# Altium schematic symbol library TFP401PZP.SchLib: 1 symbol
Pins are listed as number, name and electrical type; pins without a type are passive.

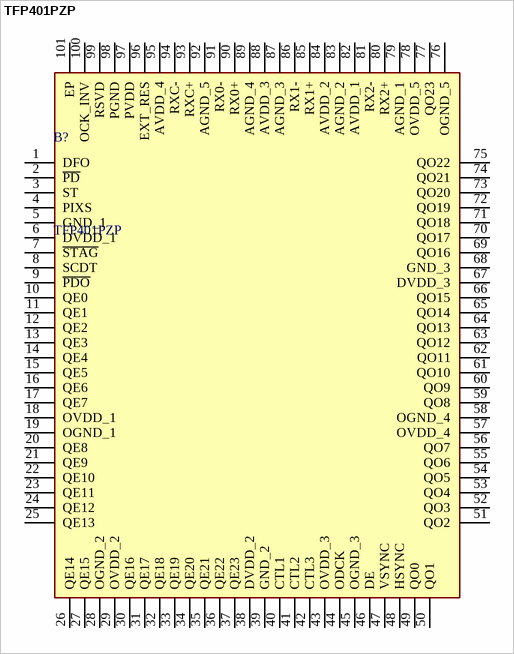
[diagram p0: symbol TFP401PZP]

## TFP401PZP
designator B?
165-MHz TMDS DVI receiver/deserializer & Panelbus integrated circuit; Manufacturer_Name: Texas Instruments; Geometry.Height: 1.2mm; Manufacturer_Part_Number: TFP401PZP; Mouser Part Number: 595-TFP401PZP; Mouser Price/Stock: https://www.mouser.co.uk/ProductDetail/Texas-Instruments/TFP401PZP?qs=bvCpHSZmQjmzyJ9p8ABYPA%3D%3D; Arrow Part Number: TFP401PZP; Arrow Price/Stock: https://www.arrow.com/en/products/tfp401pzp/texas-instruments?utm_currency=USD&region=nac; Datasheet Link: http://www.ti.com/lit/gpn/tfp401
footprint QFP50P1600X1600X120-101N
pins: 1 DFO, 2 ~{PD}, 3 ST, 4 PIXS, 5 GND_1, 6 DVDD_1, 7 ~{STAG}, 8 SCDT, 9 ~{PDO}, 10 QE0, 11 QE1, 12 QE2, 13 QE3, 14 QE4, 15 QE5, 16 QE6, 17 QE7, 18 OVDD_1, 19 OGND_1, 20 QE8, 21 QE9, 22 QE10, 23 QE11, 24 QE12, 25 QE13, 26 QE14, 27 QE15, 28 OGND_2, 29 OVDD_2, 30 QE16, 31 QE17, 32 QE18, 33 QE19, 34 QE20, 35 QE21, 36 QE22, 37 QE23, 38 DVDD_2, 39 GND_2, 40 CTL1, 41 CTL2, 42 CTL3, 43 OVDD_3, 44 ODCK, 45 OGND_3, 46 DE, 47 VSYNC, 48 HSYNC, 49 QO0, 50 QO1, 51 QO2, 52 QO3, 53 QO4, 54 QO5, 55 QO6, 56 QO7, 57 OVDD_4, 58 OGND_4, 59 QO8, 60 QO9, 61 QO10, 62 QO11, 63 QO12, 64 QO13, 65 QO14, 66 QO15, 67 DVDD_3, 68 GND_3, 69 QO16, 70 QO17, 71 QO18, 72 QO19, 73 QO20, 74 QO21, 75 QO22, 76 OGND_5, 77 QO23, 78 OVDD_5, 79 AGND_1, 80 RX2+, 81 RX2-, 82 AVDD_1, 83 AGND_2, 84 AVDD_2, 85 RX1+, 86 RX1-, 87 AGND_3, 88 AVDD_3, 89 AGND_4, 90 RX0+, 91 RX0-, 92 AGND_5, 93 RXC+, 94 RXC-, 95 AVDD_4, 96 EXT_RES, 97 PVDD, 98 PGND, 99 RSVD, 100 OCK_INV, 101 EP